# Altium schematic symbol library TPS62745.SchLib: 1 symbol
Pins are listed as number, name and electrical type; pins without a type are passive.

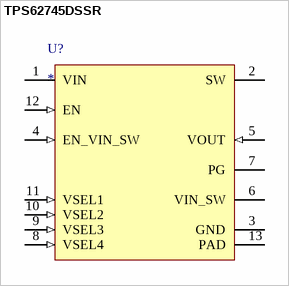
[diagram p0: symbol TPS62745DSSR]

## TPS62745DSSR
designator U?
5 Dual-cell Ultra Low IQ Step Down Converter for Low Power Wireless Applications; PartNumber: TPS62745DSSR; Alternate_PartNumber: TPS62745DSST; Manufacturer: Texas Instruments; CompType: IC; PIN_COUNT: 13; Application_BuildNumber: *; PackageReference: DSS0012A; MountType: SMT; RoHS: Y; RefDes: RefDes; Type: DEV; Value: Value
footprint DSS0012A
pins: 1 VIN (power), 2 SW (power), 3 GND (power), 4 EN_VIN_SW (in), 5 VOUT (in), 6 VIN_SW (power), 7 PG (oc), 8 VSEL4 (in), 9 VSEL3 (in), 10 VSEL2 (in), 11 VSEL1 (in), 12 EN (in), 13 PAD